# Altium footprint library MainComponents.PcbLib: 8 footprints
Each footprint in its own frame and in the unit in brackets; x right, y up, seen from the top. Pads: shape width x height; smd on the part's side, far side on the other; paste and mask are expansions set on the pad; w line width, h text height; cw(c..) or ccw(c..) is an arc to the next point about the centre after c.
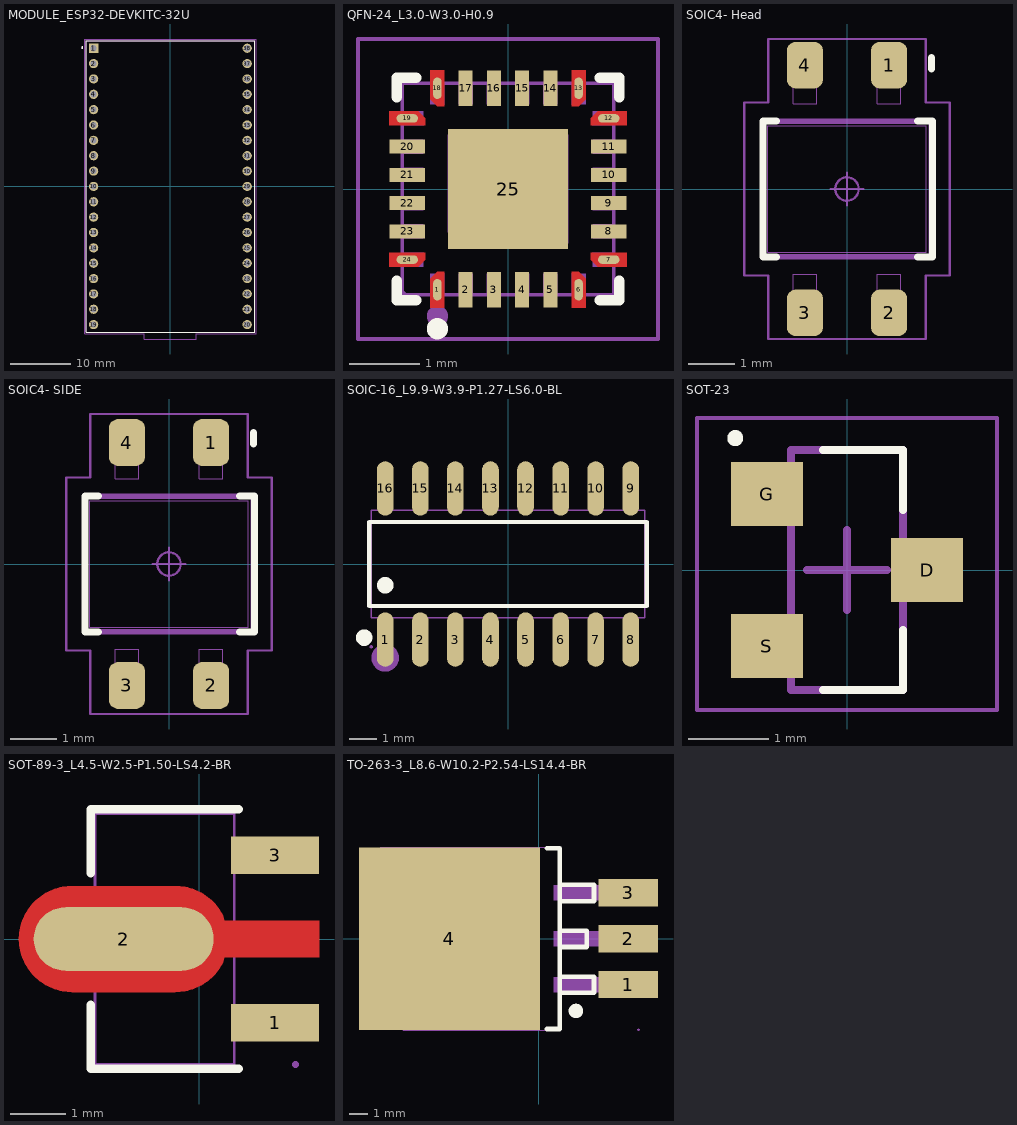
[diagram p0: the footprints below, top view; thin cyan lines are the x and y axes]

## MODULE_ESP32-DEVKITC-32U [mm]
height 20
pads (38):
  rect 1.53x1.53 / inner round 1.53 / far side rect 1.53x1.53 hole 1.02: 1(-12.7,22.85)
  round 1.53 hole 1.02: 2(-12.7,20.31) 3(-12.7,17.77) 4(-12.7,15.23) 5(-12.7,12.69) 6(-12.7,10.15) 7(-12.7,7.61) 8(-12.7,5.07) 9(-12.7,2.53) 10(-12.7,-0.01) 11(-12.7,-2.55) 12(-12.7,-5.09) 13(-12.7,-7.63) 14(-12.7,-10.17) 15(-12.7,-12.71) 16(-12.7,-15.25) 17(-12.7,-17.79) 18(-12.7,-20.33) 19(-12.7,-22.87) 20(12.7,-22.87) 21(12.7,-20.33) 22(12.7,-17.79) 23(12.7,-15.25) 24(12.7,-12.71) 25(12.7,-10.17) 26(12.7,-7.63) 27(12.7,-5.09) 28(12.7,-2.55) 29(12.7,-0.01) 30(12.7,2.53) 31(12.7,5.07) 32(12.7,7.61) 33(12.7,10.15) 34(12.7,12.69) 35(12.7,15.23) 36(12.7,17.77) 37(12.7,20.31) 38(12.7,22.85)
Top Overlay:
  circle w0.2: c-14.57,22.97 r0.1
  lines w0.127: -13.95,-24.1 -13.95,24.1 13.95,24.1 13.95,-24.1 4.06,-24.1 -4.07,-24.1 -13.95,-24.1
Mechanical 13:
  circle w0.2: c-14.57,22.97 r0.1
  lines w0.127: -13.95,-24.1 -13.95,24.1 13.95,24.1 13.95,-24.1 4.06,-24.1 -4.07,-24.1 -13.95,-24.1
Mechanical 15:
  lines w0.05: -14.2,-24.38 -14.2,24.38 14.2,24.38 14.2,-24.38 4.31,-24.38 4.31,-25.25 -4.32,-25.25 -4.32,-24.38 -14.2,-24.38
3D body "step_temp.STEP": height 10.85, standoff -2.5, extent -13.95,-24.62 13.95,24.13

## QFN-24_L3.0-W3.0-H0.9 [mm]
pads (25):
  oval 0.12x0.303 smd: 1(-1,-1.427) 6(1,-1.427) 13(1,1.427) 18(-1,1.427)
  rect 0.2x0.505 smd paste-100 mask+0.051: 2(-0.6,-1.427) 3(-0.2,-1.427) 4(0.2,-1.427) 5(0.6,-1.427) 14(0.6,1.427) 15(0.2,1.427) 16(-0.2,1.427) 17(-0.6,1.427)
  oval 0.303x0.12 smd: 7(1.427,-1) 12(1.427,1) 19(-1.427,1) 24(-1.427,-1)
  rect 0.505x0.2 smd paste-100 mask+0.051: 8(1.427,-0.6) 9(1.427,-0.2) 10(1.427,0.2) 11(1.427,0.6) 20(-1.427,0.6) 21(-1.427,0.2) 22(-1.427,-0.2) 23(-1.427,-0.6)
  rect 1.7x1.7 smd paste-100 mask+0.051: 25(0,0)
Top Layer:
  region: -1.1,1.68 -0.9,1.68 -0.9,1.175 -1,1.174 -1.1,1.274
  region: -1.68,-1.1 -1.274,-1.1 -1.174,-1 -1.175,-0.9 -1.68,-0.9
  region: 1.68,-1.1 1.275,-1.1 1.175,-1 1.175,-0.9 1.68,-0.9
  region: 1.68,1.1 1.274,1.1 1.174,1 1.175,0.9 1.68,0.9
  region: 1.1,1.68 0.9,1.68 0.9,1.175 1,1.174 1.1,1.274
  region: -1.1,-1.68 -0.9,-1.68 -0.9,-1.175 -1,-1.174 -1.1,-1.275
  region: 1.1,-1.68 0.9,-1.68 0.9,-1.175 1,-1.175 1.1,-1.275
  region: -1.68,1.1 -1.274,1.1 -1.174,1 -1.175,0.9 -1.68,0.9
Top Overlay:
  circle w0.15: c-1,-1.98 r0.075
  lines w0.152: -1.576,-1.303 -1.576,-1.576 -1.303,-1.576 ; -1.576,1.303 -1.576,1.576 -1.303,1.576 ; 1.303,-1.576 1.576,-1.576 1.576,-1.303 ; 1.303,1.576 1.576,1.576 1.576,1.303
Top Paste:
  region: 0.5,1.68 0.5,1.175 0.7,1.175 0.7,1.68
  region: -0.9,1.175 -0.9,1.68 -1.1,1.68 -1.1,1.274 -1,1.174
  region: -0.5,1.175 -0.5,1.68 -0.7,1.68 -0.7,1.175
  region: 0.1,1.68 0.1,1.175 0.3,1.175 0.3,1.68
  region: -0.1,1.175 -0.1,1.68 -0.3,1.68 -0.3,1.175
  region: 1.1,1.274 1.1,1.68 0.9,1.68 0.9,1.175 1,1.174
  region: -1.68,1.1 -1.68,0.9 -1.175,0.9 -1.174,1 -1.274,1.1
  region: 1.274,1.1 1.174,1 1.175,0.9 1.68,0.9 1.68,1.1
  region: -1.68,0.7 -1.68,0.5 -1.175,0.5 -1.175,0.7
  region: 1.68,0.5 1.68,0.7 1.175,0.7 1.175,0.5
  region: -1.68,0.3 -1.68,0.1 -1.175,0.1 -1.175,0.3
  region: 1.68,0.1 1.68,0.3 1.175,0.3 1.175,0.1
  region: -1.68,-0.1 -1.68,-0.3 -1.175,-0.3 -1.175,-0.1
  region: 1.68,-0.3 1.68,-0.1 1.175,-0.1 1.175,-0.3
  region: -1.68,-0.5 -1.68,-0.7 -1.175,-0.7 -1.175,-0.5
  region: 1.68,-0.7 1.68,-0.5 1.175,-0.5 1.175,-0.7
  region: -1.68,-0.9 -1.68,-1.1 -1.274,-1.1 -1.174,-1 -1.175,-0.9
  region: 1.68,-1.1 1.68,-0.9 1.175,-0.9 1.175,-1 1.275,-1.1
  region: -0.9,-1.175 -1,-1.174 -1.1,-1.275 -1.1,-1.68 -0.9,-1.68
  region: 1,-1.175 0.9,-1.175 0.9,-1.68 1.1,-1.68 1.1,-1.275
  region: 0.7,-1.68 0.7,-1.175 0.5,-1.175 0.5,-1.68
  region: -0.7,-1.175 -0.7,-1.68 -0.5,-1.68 -0.5,-1.175
  region: 0.3,-1.68 0.3,-1.175 0.1,-1.175 0.1,-1.68
  region: -0.1,-1.68 -0.1,-1.175 -0.3,-1.175 -0.3,-1.68
  region: -0.72,0.72 0.72,0.72 0.72,-0.72 -0.72,-0.72
Mechanical 6:
  circle w0.15: c-1,-1.8 r0.075
Mechanical 15:
  region: -1.44,-1.5 -1.44,-1.475 -1.475,-1.44 -1.525,-1.44 -1.56,-1.475 -1.56,-1.5 -1.56,-1.525 -1.525,-1.56 -1.475,-1.56 -1.44,-1.525
  region: -1.1,-1.5 -1.1,-1.2 -0.9,-1.2 -0.9,-1.5
  region: -0.7,-1.5 -0.7,-1.2 -0.5,-1.2 -0.5,-1.5
  region: -0.3,-1.5 -0.3,-1.2 -0.1,-1.2 -0.1,-1.5
  region: 0.1,-1.5 0.1,-1.2 0.3,-1.2 0.3,-1.5
  region: 0.5,-1.5 0.5,-1.2 0.7,-1.2 0.7,-1.5
  region: 0.9,-1.5 0.9,-1.2 1.1,-1.2 1.1,-1.5
  region: 1.2,-1.1 1.2,-0.9 1.5,-0.9 1.5,-1.1
  region: 1.2,-0.7 1.2,-0.5 1.5,-0.5 1.5,-0.7
  region: 1.2,-0.3 1.2,-0.1 1.5,-0.1 1.5,-0.3
  region: 1.2,0.1 1.2,0.3 1.5,0.3 1.5,0.1
  region: 1.2,0.5 1.2,0.7 1.5,0.7 1.5,0.5
  region: 1.2,0.9 1.2,1.1 1.5,1.1 1.5,0.9
  region: 0.9,1.5 0.9,1.2 1.1,1.2 1.1,1.5
  region: 0.5,1.5 0.5,1.2 0.7,1.2 0.7,1.5
  region: 0.1,1.5 0.1,1.2 0.3,1.2 0.3,1.5
  region: -0.3,1.5 -0.3,1.2 -0.1,1.2 -0.1,1.5
  region: -0.7,1.5 -0.7,1.2 -0.5,1.2 -0.5,1.5
  region: -1.1,1.5 -1.1,1.2 -0.9,1.2 -0.9,1.5
  region: -1.2,0.9 -1.2,1.1 -1.5,1.1 -1.5,0.9
  region: -1.2,0.5 -1.2,0.7 -1.5,0.7 -1.5,0.5
  region: -1.2,0.1 -1.2,0.3 -1.5,0.3 -1.5,0.1
  region: -1.2,-0.3 -1.2,-0.1 -1.5,-0.1 -1.5,-0.3
  region: -1.2,-0.7 -1.2,-0.5 -1.5,-0.5 -1.5,-0.7
  region: -1.2,-1.1 -1.2,-0.9 -1.5,-0.9 -1.5,-1.1
  region: -0.85,-0.616 -0.85,0.77 0.85,0.77 0.85,-0.77 -0.696,-0.77
  lines w0.051: -1.5,-1.5 -1.5,1.5 1.5,1.5 1.5,-1.5 -1.5,-1.5
Mechanical 20:
  lines w0.05: -2.125,-2.125 -2.125,2.125 2.125,2.125 2.125,-2.125 -2.125,-2.125
3D body "User Library-FC2QFN.STEP": height 0.55, standoff -0.02, extent -1.5,-1.5 1.5,1.5

## SOIC4- Head [mm] "Small Outline IC (SOIC), 1.80 mm pitch; 4 pin, 3.40 mm L X 2.70 mm W X 1.70 mm H body"
height 1.7
pads (4):
  rrect49% 0.77x1 smd: 1(0.9,2.65) 2(0.9,-2.65) 3(-0.9,-2.65) 4(-0.9,2.65)
Top Overlay:
  lines w0.15: -1.51,-1.45 -1.8,-1.45 -1.8,1.45 -1.51,1.45 ; 1.51,-1.45 1.825,-1.45 1.825,1.45 1.51,1.45 ; 1.803,2.565 1.803,2.815
Mechanical 11:
  lines w0.12: -1.8,-1.45 -1.8,1.45 1.8,1.45 1.8,-1.45 -1.8,-1.45
Mechanical 12:
  lines w0.025: -1.7,-1.35 -1.7,1.35 1.7,1.35 1.7,-1.35 -1.7,-1.35 ; -1.15,-2.3 -0.65,-2.3 -0.65,-1.825 -1.15,-1.825 -1.15,-2.3 ; -1.15,1.825 -0.65,1.825 -0.65,2.3 -1.15,2.3 -1.15,1.825 ; 0.65,-2.3 1.15,-2.3 1.15,-1.825 0.65,-1.825 0.65,-2.3 ; 0.65,1.825 1.15,1.825 1.15,2.3 0.65,2.3 0.65,1.825
Mechanical 15:
  circle w0.05: c0,0 r0.25
  lines w0.05: -0.35,0 0.35,0 ; 0,-0.35 0,0.35 ; -2.2,-1.85 -2.2,1.85 -1.685,1.85 -1.685,3.21 1.685,3.21 1.685,1.85 2.2,1.85 2.2,-1.85 1.685,-1.85 1.685,-3.21 -1.685,-3.21 -1.685,-1.85 -2.2,-1.85
Mechanical 16:
  text ".Designator" at 0,0 h1.5
3D body "User Library-QRE1113GR.STEP": height 0.15, standoff -1.7, extent -1.8,-2.4 1.8,2.4

## SOIC4- SIDE [mm] "Small Outline IC (SOIC), 1.80 mm pitch; 4 pin, 3.40 mm L X 2.70 mm W X 1.70 mm H body"
height 1.7
pads (4):
  rrect49% 0.77x1 smd: 1(0.9,2.6) 2(0.9,-2.6) 3(-0.9,-2.6) 4(-0.9,2.6)
Top Overlay:
  lines w0.15: -1.51,-1.45 -1.8,-1.45 -1.8,1.45 -1.51,1.45 ; 1.51,-1.45 1.825,-1.45 1.825,1.45 1.51,1.45 ; 1.803,2.565 1.803,2.815
Mechanical 11:
  lines w0.12: -1.8,-1.45 1.8,-1.45 1.8,1.45 -1.8,1.45 -1.8,-1.45
Mechanical 12:
  lines w0.025: -1.7,-1.35 1.7,-1.35 1.7,1.35 -1.7,1.35 -1.7,-1.35 ; -1.15,-2.3 -1.15,-1.825 -0.65,-1.825 -0.65,-2.3 -1.15,-2.3 ; -1.15,1.825 -1.15,2.3 -0.65,2.3 -0.65,1.825 -1.15,1.825 ; 0.65,-2.3 0.65,-1.825 1.15,-1.825 1.15,-2.3 0.65,-2.3 ; 0.65,1.825 0.65,2.3 1.15,2.3 1.15,1.825 0.65,1.825
Mechanical 15:
  circle w0.05: c0,0 r0.25
  lines w0.05: -0.35,0 0.35,0 ; 0,-0.35 0,0.35 ; -2.2,-1.85 -1.685,-1.85 -1.685,-3.21 1.685,-3.21 1.685,-1.85 2.2,-1.85 2.2,1.85 1.685,1.85 1.685,3.21 -1.685,3.21 -1.685,1.85 -2.2,1.85 -2.2,-1.85
Mechanical 16:
  text ".Designator" at 0,0 h1.5
3D body "User Library-QRE1113GR.STEP": height 0.15, standoff -1.7, extent -1.8,-2.4 1.8,2.4

## SOIC-16_L9.9-W3.9-P1.27-LS6.0-BL [mm]
pads (16):
  oval 0.602x1.971 smd paste+0 mask+0.051: 1(-4.445,-2.736) 2(-3.175,-2.736) 3(-1.905,-2.736) 4(-0.635,-2.736) 5(0.635,-2.736) 6(1.905,-2.736) 7(3.175,-2.736) 8(4.445,-2.736) 9(4.445,2.736) 10(3.175,2.736) 11(1.905,2.736) 12(0.635,2.736) 13(-0.635,2.736) 14(-1.905,2.736) 15(-3.175,2.736) 16(-4.445,2.736)
Top Overlay:
  circle w0.3: c-5.207,-2.667 r0.15
  circle w0.3: c-4.445,-0.769 r0.15
  lines w0.152: -5.026,-1.521 5.026,-1.521 5.026,1.521 -5.026,1.521 -5.026,-1.521
Mechanical 6:
  circle w0.5: c-4.445,-3.4 r0.25
Mechanical 15:
  drawing of 37 lines, arcs and shapes, not listed
3D body "User Library-so16.STEP": height 1.7, standoff 0, extent -5.1,-3 5.1,3

## SOT-23 [mm] "SOT23, 3-Leads, Body 2.90x2.40mm, Pitch 0.95mm, IPC Medium Density"
height 1.1
pads (3):
  rect 0.9x0.8 smd: D(1,0) G(-1,0.95) S(-1,-0.95)
Top Overlay:
  circle w0.1: c-1.397,1.651 r0.05
  lines w0.1: -0.3,-1.5 0.7,-1.5 0.7,-0.75 ; -0.3,1.5 0.7,1.5 0.7,0.75
Mechanical 13:
  lines w0.1: -0.7,-1.5 -0.7,1.5 0.7,1.5 0.7,-1.5 -0.7,-1.5
Mechanical 15:
  lines w0.05: -1.875,-1.75 -1.875,1.905 1.875,1.905 1.875,-1.75 -1.875,-1.75
  lines w0.1: -0.5,0 0.5,0 ; 0,-0.5 0,0.5
3D body: height 1.1, standoff 0.1, extent -0.7,-1.5 0.7,1.5

## SOT-89-3_L4.5-W2.5-P1.50-LS4.2-BR [mm]
pads (3):
  rect 1.575x0.672 smd paste+0 mask+0.051: 1(1.356,-1.5) 3(1.356,1.5)
  oval 3.226x1.14 smd: 2(-1.356,0)
Top Layer:
  region: -2.283,0.95 -0.429,0.95 -0.384,0.949 -0.34,0.946 -0.296,0.94 -0.252,0.933 -0.208,0.924 -0.165,0.912 -0.123,0.899 -0.081,0.884 -0.04,0.866 0,0.847 0.04,0.826 0.078,0.803 0.115,0.779 0.151,0.752 0.185,0.724 0.219,0.695 0.251,0.664 0.281,0.631 0.31,0.597 0.337,0.562 0.362,0.525 0.386,0.488 0.408,0.449 0.428,0.409 0.447,0.33 2.144,0.33 2.144,-0.33 0.447,-0.33 0.428,-0.409 0.408,-0.449 0.386,-0.488 0.362,-0.526 0.337,-0.562 0.31,-0.597 0.281,-0.631 0.251,-0.664 0.219,-0.695 0.185,-0.725 0.151,-0.753 0.115,-0.779 0.078,-0.804 0.04,-0.827 0,-0.848 -0.04,-0.867 -0.081,-0.884 -0.123,-0.899 -0.165,-0.913 -0.208,-0.924 -0.252,-0.934 -0.296,-0.941 -0.34,-0.946 -0.384,-0.949 -0.429,-0.95 -2.283,-0.95 -2.328,-0.949 -2.372,-0.946 -2.416,-0.941 -2.46,-0.934 -2.504,-0.924 -2.547,-0.913 -2.589,-0.899 -2.631,-0.884 -2.672,-0.867 -2.713,-0.848 -2.752,-0.827 -2.79,-0.804 -2.827,-0.779 -2.863,-0.753 -2.898,-0.725 -2.931,-0.695 -2.963,-0.664 -2.993,-0.631 -3.022,-0.597 -3.049,-0.562 -3.075,-0.526 -3.098,-0.488 -3.12,-0.449 -3.141,-0.409 -3.159,-0.369 -3.175,-0.327 -3.189,-0.285 -3.202,-0.242 -3.212,-0.199 -3.22,-0.155 -3.227,-0.111 -3.231,-0.067 -3.233,-0.022 -3.233,0.022 -3.231,0.067 -3.227,0.111 -3.22,0.155 -3.212,0.199 -3.202,0.242 -3.189,0.285 -3.175,0.327 -3.159,0.369 -3.141,0.409 -3.12,0.449 -3.098,0.488 -3.075,0.525 -3.049,0.562 -3.022,0.597 -2.993,0.631 -2.963,0.664 -2.931,0.695 -2.898,0.724 -2.863,0.752 -2.827,0.779 -2.79,0.803 -2.752,0.826 -2.713,0.847 -2.672,0.866 -2.631,0.884 -2.589,0.899 -2.547,0.912 -2.504,0.924 -2.46,0.933 -2.416,0.94 -2.372,0.946 -2.328,0.949
Top Overlay:
  lines w0.152: -1.95,-1.177 -1.95,-2.326 0.702,-2.326 ; -1.95,1.177 -1.95,2.326 0.702,2.326
Mechanical 6:
  circle w0.3: c1.715,-1.5 r0.15
Mechanical 15:
  region: 0.624,1.75 1.724,1.75 1.724,1.25 0.624,1.25
  region: 0.624,-1.25 1.724,-1.25 1.724,-1.75 0.624,-1.75
  region: 0.439,-0.26 1.724,-0.26 1.724,0.26 0.439,0.26 -0.136,0.863 -2,0.863 -2.471,0.288 -2.471,-0.287 -2,-0.862 -0.136,-0.862
  region: 1.784,-2.25 1.784,-2.225 1.749,-2.19 1.699,-2.19 1.664,-2.225 1.664,-2.25 1.664,-2.275 1.699,-2.31 1.749,-2.31 1.784,-2.275
  lines w0.051: -1.874,-2.25 0.626,-2.25 0.626,2.25 -1.874,2.25 -1.874,-2.25
3D body "User Library-SOT89-3.STEP": height 1.54, standoff 0, extent -2.65,-2.25 1.6,2.25

## TO-263-3_L8.6-W10.2-P2.54-LS14.4-BR [mm]
pads (4):
  rect 3.3x1.511 smd paste+0 mask+0.051: 1(4.952,-2.54) 2(4.952,0) 3(4.952,2.54)
  rect 10.02x10.122 smd paste+0 mask+0.051: 4(-4.952,0)
Top Overlay:
  lines w0.254: 0.456,-5.001 1.157,-5.001 1.157,5.001 0.456,5.001 ; 1.157,-3 3.057,-3 3.057,-2.101 1.157,-2.101 ; 1.157,-0.46 2.655,-0.46 2.655,0.439 1.157,0.439 ; 1.157,2.08 3.057,2.08 3.057,2.979 1.157,2.979
  lines w0.399: 2.053,-4.201 cw(c2.055,-4) 2.055,-3.8 cw(c2.055,-4) 2.056,-4.201
Mechanical 6:
  circle w0.6: c5.716,-2.515 r0.3
Mechanical 15:
  region: 0.839,-0.406 0.839,0.424 3.689,0.424 3.689,-0.406
  region: 0.839,-2.955 0.839,-2.125 3.689,-2.125 3.689,-2.955
  region: 3.551,-2.96 3.551,-2.12 5.551,-2.12 5.551,-2.96
  region: 3.551,2.12 3.551,2.96 5.551,2.96 5.551,2.12
  region: 3.551,-0.42 3.551,0.42 5.551,0.42 5.551,-0.42
  region: 0.839,2.134 0.839,2.964 3.689,2.964 3.689,2.134
  region: -8.787,-5.055 -8.787,5.055 -2.187,5.055 -2.187,-5.055
  region: 5.581,-5.05 5.581,-5.025 5.546,-4.99 5.496,-4.99 5.461,-5.025 5.461,-5.05 5.461,-5.075 5.496,-5.11 5.546,-5.11 5.581,-5.075
  lines w0.051: -7.517,-5.08 1.123,-5.08 1.123,5.08 -7.517,5.08 -7.517,-5.08
3D body "User Library-TO263-3-1.STEP": height 4.6, standoff -0.03, extent -9.584,-5.17 6.266,5.23